# Altium schematic symbol library SCH - POWER - LINEAR VREG - TI LM1117MP-3.3_NOPB.Schlib: 1 symbol
Pins are listed as number, name and electrical type; pins without a type are passive.

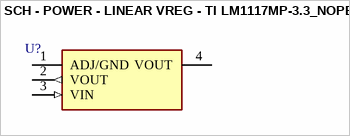
[diagram p0: symbol SCH - POWER - LINEAR VREG - TI LM1117MP-3.3_NOPB]

## SCH - POWER - LINEAR VREG - TI LM1117MP-3.3_NOPB
designator U?
footprint SOT230P700X180-4N
pins: 1 ADJ/GND, 2 VOUT (out), 3 VIN (in), 4 VOUT (power)